# EAGLE library part NONASSMANN_VGA_CONNECTOR (library Steering)
90 degree VGA connector
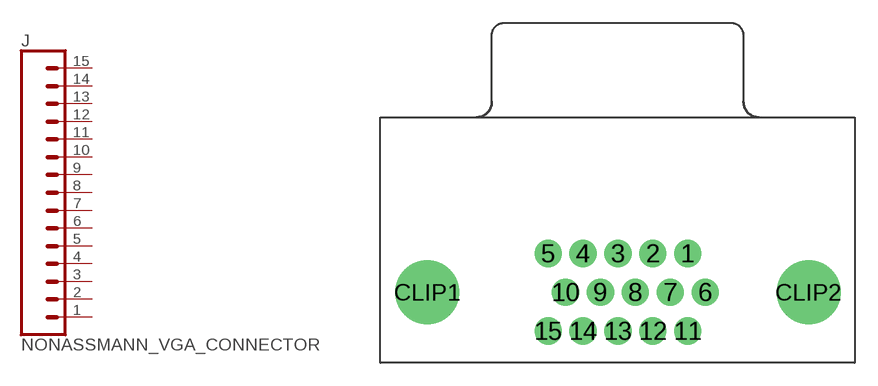
[diagram p2: symbol with the pads of NONASSMANN_VGA_CONNECTOR; footprint NONASSMANN_VGA_CONNECTOR]

Designator prefix J

## NONASSMANN_VGA_CONNECTOR (DKPN: A35121-ND)  [NONASSMANN_VGA_CONNECTOR]
1  1  pas
2  2  pas
3  3  pas
4  4  pas
5  5  pas
6  6  pas
7  7  pas
8  8  pas
9  9  pas
10  10  pas
11  11  pas
12  12  pas
13  13  pas
14  14  pas
15  15  pas

## Footprint NONASSMANN_VGA_CONNECTOR (pad centres in mm)
drill 1.19: 1 4.6,-3.89; 2 2.31,-3.89; 3 0.02,-3.89; 4 -2.27,-3.89; 5 -4.56,-3.89; 6 5.74,-6.43; 7 3.45,-6.43; 8 1.16,-6.43; 9 -1.13,-6.43; 10 -3.42,-6.43; 11 4.6,-8.97; 12 2.31,-8.97; 13 0.02,-8.97; 14 -2.27,-8.97; 15 -4.56,-8.97
drill 3.18: CLIP1 -12.48,-6.43; CLIP2 12.52,-6.43